# EAGLE library part ACPL-227 (library PP_DigitalIC)
Manufacturer Part #: ACPL-227 Manufacturer: Avago Technologies Description: Transistor Output Optocouplers DC Phototx Coupler
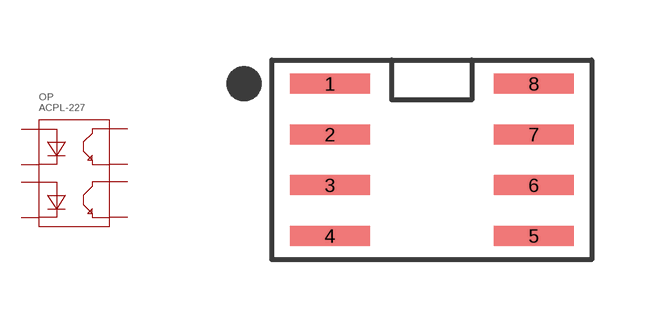
[diagram p11: symbol with the pads of ACPL-227_SO-8; footprint ACPL-227_SO-8]

Designator prefix OP

## ACPL-227-500E  [ACPL-227_SO-8]
1  1
2  2
3  3
4  4
5  5
6  6
7  7
8  8

## Footprint ACPL-227_SO-8 (pad centres in mm)
smd 2 x 0.5: 1 -2.55,1.905; 2 -2.55,0.635; 3 -2.55,-0.635; 4 -2.55,-1.905; 5 2.55,-1.905; 6 2.55,-0.635; 7 2.55,0.635; 8 2.55,1.905